# Altium footprint library generic_smd_chip_capacitors.PcbLib: 12 footprints
Each footprint in its own frame and in the unit in brackets; x right, y up, seen from the top. Pads: shape width x height; smd on the part's side, far side on the other; paste and mask are expansions set on the pad; w line width, h text height; cw(c..) or ccw(c..) is an arc to the next point about the centre after c.
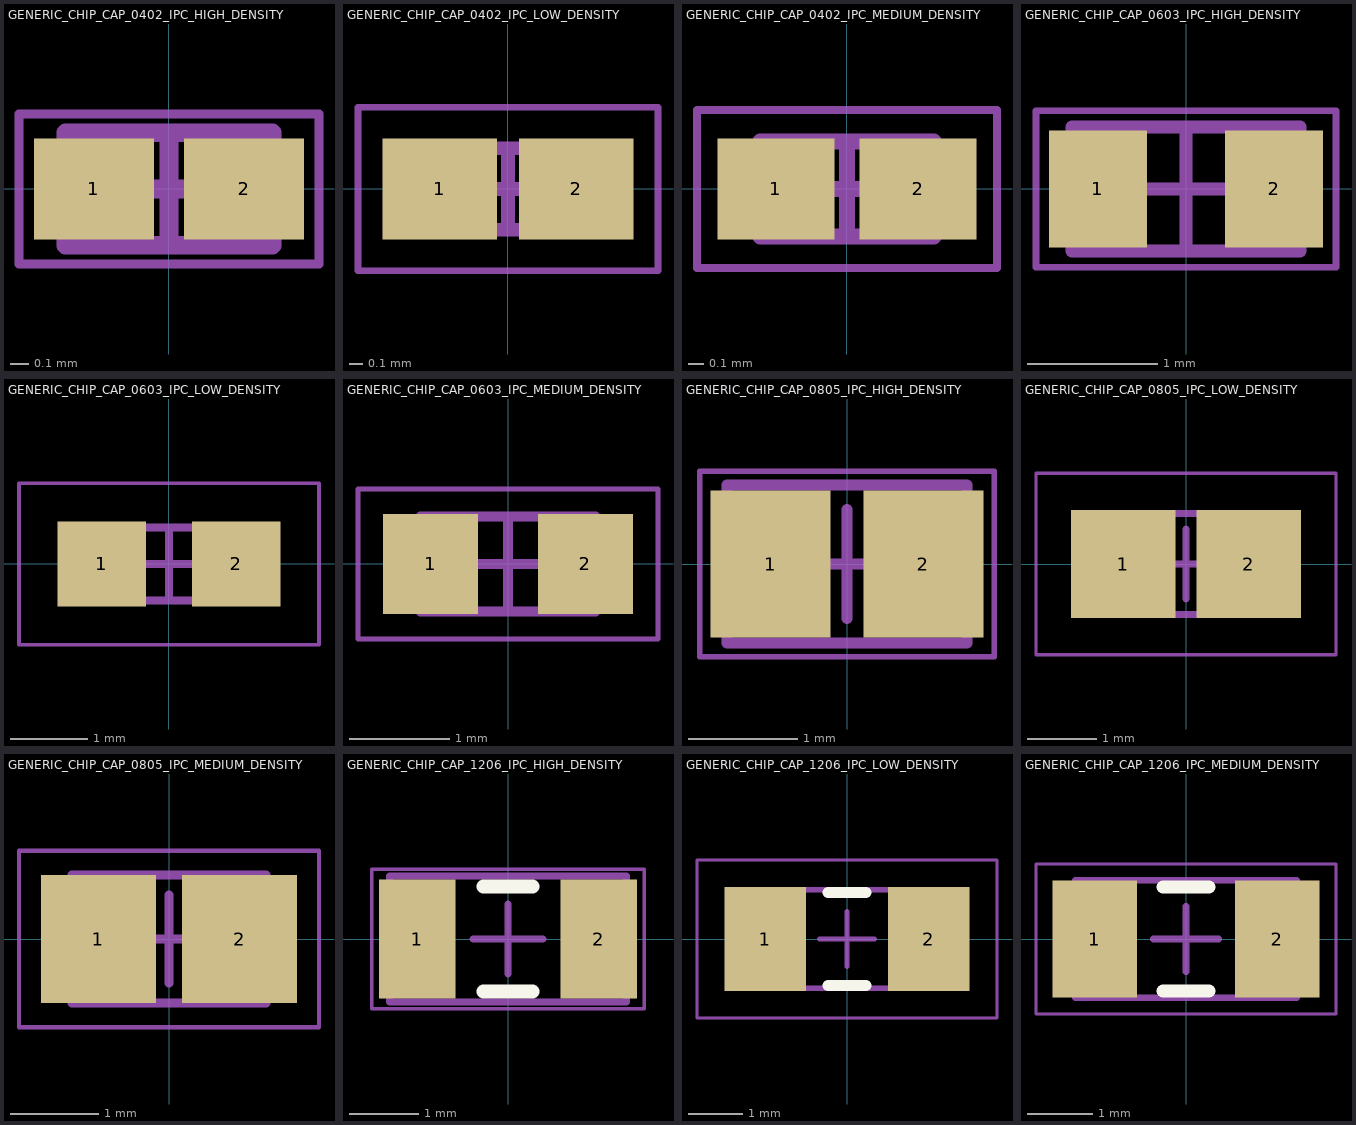
[diagram p0: the footprints below, top view; thin cyan lines are the x and y axes]

## GENERIC_CHIP_CAP_0402_IPC_HIGH_DENSITY [mm] "Generic Chip Capacitor, 0402, 1.00x0.50mm, IPC High Density"
height 0.6
pads (2):
  rect 0.64x0.54 smd: 1(-0.4,0) 2(0.4,0)
Top Assembly:
  lines w0.1: -0.55,-0.3 0.55,-0.3 0.55,0.3 -0.55,0.3 -0.55,-0.3
Top Courtyard:
  lines w0.05: -0.8,-0.4 0.8,-0.4 0.8,0.4 -0.8,0.4 -0.8,-0.4
  lines w0.1: -0.3,0 0.3,0 ; 0,-0.3 0,0.3
3D body "CAPC1005X06L.step": height 0.6, standoff 0, extent -0.55,-0.3 0.55,0.3

## GENERIC_CHIP_CAP_0402_IPC_LOW_DENSITY [mm] "Generic Chip Capacitor, 0402, 1.00x0.50mm, IPC Low Density"
height 0.6
pads (2):
  rect 0.84x0.74 smd: 1(-0.5,0) 2(0.5,0)
Top Assembly:
  lines w0.1: -0.55,-0.3 0.55,-0.3 0.55,0.3 -0.55,0.3 -0.55,-0.3
Top Courtyard:
  lines w0.05: -1.1,-0.6 1.1,-0.6 1.1,0.6 -1.1,0.6 -1.1,-0.6
  lines w0.1: -0.3,0 0.3,0 ; 0,-0.3 0,0.3
3D body "IPC_CHIP_CAP_0402_LOW_DENSITY.step": height 0.6, standoff 0, extent -0.55,-0.3 0.55,0.3

## GENERIC_CHIP_CAP_0402_IPC_MEDIUM_DENSITY [mm] "Generic Chip Capacitor, 0402, 1.00x0.50mm, IPC Medium Density"
height 0.6
pads (2):
  rect 0.74x0.64 smd: 1(-0.45,0) 2(0.45,0)
Top Assembly:
  lines w0.1: -0.55,-0.3 0.55,-0.3 0.55,0.3 -0.55,0.3 -0.55,-0.3
Top Courtyard:
  lines w0.05: -0.95,-0.5 0.95,-0.5 0.95,0.5 -0.95,0.5 -0.95,-0.5
  lines w0.1: -0.3,0 0.3,0 ; 0,-0.3 0,0.3
3D body "CAPC1005X06N.step": height 0.6, standoff 0, extent -0.55,-0.3 0.55,0.3

## GENERIC_CHIP_CAP_0603_IPC_HIGH_DENSITY [mm] "Generic Chip Capacitor, 0603, 1.60x0.80mm, IPC High Density"
height 0.9
pads (2):
  rect 0.75x0.9 smd: 1(-0.675,0) 2(0.675,0)
Top Assembly:
  lines w0.1: -0.875,-0.475 0.875,-0.475 0.875,0.475 -0.875,0.475 -0.875,-0.475
Top Courtyard:
  lines w0.05: -1.15,-0.6 1.15,-0.6 1.15,0.6 -1.15,0.6 -1.15,-0.6
  lines w0.1: -0.475,0 0.475,0 ; 0,-0.475 0,0.475
3D body "CAPC1608X09L.step": height 0.9, standoff 0, extent -0.875,-0.475 0.875,0.475

## GENERIC_CHIP_CAP_0603_IPC_LOW_DENSITY [mm] "Generic Chip Capacitor, 0603, 1.60x0.80mm, IPC Low Density"
height 0.9
pads (2):
  rect 1.15x1.1 smd: 1(-0.875,0) 2(0.875,0)
Top Assembly:
  lines w0.1: -0.875,-0.475 -0.875,0.475 0.875,0.475 0.875,-0.475 -0.875,-0.475
Top Courtyard:
  lines w0.05: -1.95,-1.05 -1.95,1.05 1.95,1.05 1.95,-1.05 -1.95,-1.05
  lines w0.1: -0.475,0 0.475,0 ; 0,-0.475 0,0.475
3D body "CAPC1608X09M.step": height 0.9, standoff 0, extent -0.875,-0.475 0.875,0.475

## GENERIC_CHIP_CAP_0603_IPC_MEDIUM_DENSITY [mm] "Generic Chip Capacitor, 0603, 1.60x0.80mm, IPC Medium Density"
height 0.9
pads (2):
  rect 0.95x1 smd: 1(-0.775,0) 2(0.775,0)
Top Assembly:
  lines w0.1: -0.875,-0.475 0.875,-0.475 0.875,0.475 -0.875,0.475 -0.875,-0.475
Top Courtyard:
  lines w0.05: -1.5,-0.75 1.5,-0.75 1.5,0.75 -1.5,0.75 -1.5,-0.75
  lines w0.1: -0.475,0 0.475,0 ; 0,-0.475 0,0.475
3D body "CAPC1608X09N.step": height 0.9, standoff 0, extent -0.875,-0.475 0.875,0.475

## GENERIC_CHIP_CAP_0805_IPC_HIGH_DENSITY [mm] "Generic Chip Capacitor, 0805, 2.00x1.25mm, IPC High Density"
height 1.3
pads (2):
  rect 1.1x1.35 smd: 1(-0.7,0) 2(0.7,0)
Top Assembly:
  lines w0.1: -1.1,-0.725 -1.1,0.725 1.1,0.725 1.1,-0.725 -1.1,-0.725
Top Courtyard:
  lines w0.05: -1.35,-0.85 -1.35,0.85 1.35,0.85 1.35,-0.85 -1.35,-0.85
  lines w0.1: -0.5,0 0.5,0 ; 0,-0.5 0,0.5
3D body "CAPC2012X13L.step": height 1.3, standoff 0, extent -1.1,-0.725 1.1,0.725

## GENERIC_CHIP_CAP_0805_IPC_LOW_DENSITY [mm] "Generic Chip Capacitor, 0805, 2.00x1.25mm, IPC Low Density"
height 1.3
pads (2):
  rect 1.5x1.55 smd: 1(-0.9,0) 2(0.9,0)
Top Assembly:
  lines w0.1: -1.1,-0.725 1.1,-0.725 1.1,0.725 -1.1,0.725 -1.1,-0.725
Top Courtyard:
  lines w0.05: -2.15,-1.3 2.15,-1.3 2.15,1.3 -2.15,1.3 -2.15,-1.3
  lines w0.1: -0.5,0 0.5,0 ; 0,-0.5 0,0.5
3D body "CAPC2012X13M.step": height 1.3, standoff 0, extent -1.1,-0.725 1.1,0.725

## GENERIC_CHIP_CAP_0805_IPC_MEDIUM_DENSITY [mm] "Generic Chip Capacitor, 0805, 2.00x1.25mm, IPC Medium Density"
height 1.3
pads (2):
  rect 1.3x1.45 smd: 1(-0.8,0) 2(0.8,0)
Top Assembly:
  lines w0.1: -1.1,-0.725 -1.1,0.725 1.1,0.725 1.1,-0.725 -1.1,-0.725
Top Courtyard:
  lines w0.05: -1.7,-1 -1.7,1 1.7,1 1.7,-1 -1.7,-1
  lines w0.1: -0.5,0 0.5,0 ; 0,-0.5 0,0.5
3D body "CAPC2012X13N.step": height 1.3, standoff 0, extent -1.1,-0.725 1.1,0.725

## GENERIC_CHIP_CAP_1206_IPC_HIGH_DENSITY [mm] "Generic Chip Capacitor, 1206, 3.20x1.60mm, IPC High Density"
height 1.7
pads (2):
  rect 1.1x1.7 smd: 1(-1.3,0) 2(1.3,0)
Top Overlay:
  lines w0.2: -0.35,-0.75 0.35,-0.75 ; -0.35,0.75 0.35,0.75
Top Assembly:
  lines w0.1: -1.7,-0.9 1.7,-0.9 1.7,0.9 -1.7,0.9 -1.7,-0.9
Top Courtyard:
  lines w0.05: -1.95,-1 1.95,-1 1.95,1 -1.95,1 -1.95,-1
  lines w0.1: -0.5,0 0.5,0 ; 0,-0.5 0,0.5
3D body "CAPC3216X17L.step": height 1.7, standoff 0, extent -1.7,-0.9 1.7,0.9

## GENERIC_CHIP_CAP_1206_IPC_LOW_DENSITY [mm] "Generic Chip Capacitor, 1206, 3.20x1.60mm, IPC Low Density"
height 1.7
pads (2):
  rect 1.5x1.9 smd: 1(-1.5,0) 2(1.5,0)
Top Overlay:
  lines w0.2: -0.35,-0.85 0.35,-0.85 ; -0.35,0.85 0.35,0.85
Top Assembly:
  lines w0.1: -1.7,-0.9 1.7,-0.9 1.7,0.9 -1.7,0.9 -1.7,-0.9
Top Courtyard:
  lines w0.05: -2.75,-1.45 2.75,-1.45 2.75,1.45 -2.75,1.45 -2.75,-1.45
  lines w0.1: -0.5,0 0.5,0 ; 0,-0.5 0,0.5
3D body "CAPC3216X17M.step": height 1.7, standoff 0, extent -1.7,-0.9 1.7,0.9

## GENERIC_CHIP_CAP_1206_IPC_MEDIUM_DENSITY [mm] "Generic Chip Capacitor, 1206, 3.20x1.60mm, IPC Medium Density"
height 1.7
pads (2):
  rect 1.3x1.8 smd: 1(-1.4,0) 2(1.4,0)
Top Overlay:
  lines w0.2: -0.35,-0.8 0.35,-0.8 ; -0.35,0.8 0.35,0.8
Top Assembly:
  lines w0.1: -1.7,-0.9 1.7,-0.9 1.7,0.9 -1.7,0.9 -1.7,-0.9
Top Courtyard:
  lines w0.05: -2.3,-1.15 2.3,-1.15 2.3,1.15 -2.3,1.15 -2.3,-1.15
  lines w0.1: -0.5,0 0.5,0 ; 0,-0.5 0,0.5
3D body "CAPC3216X17N.step": height 1.7, standoff 0, extent -1.7,-0.9 1.7,0.9